# Altium integrated library TI Data Converters Digital to Analog Converter.IntLib: 1533 symbols (part 95 of 99)
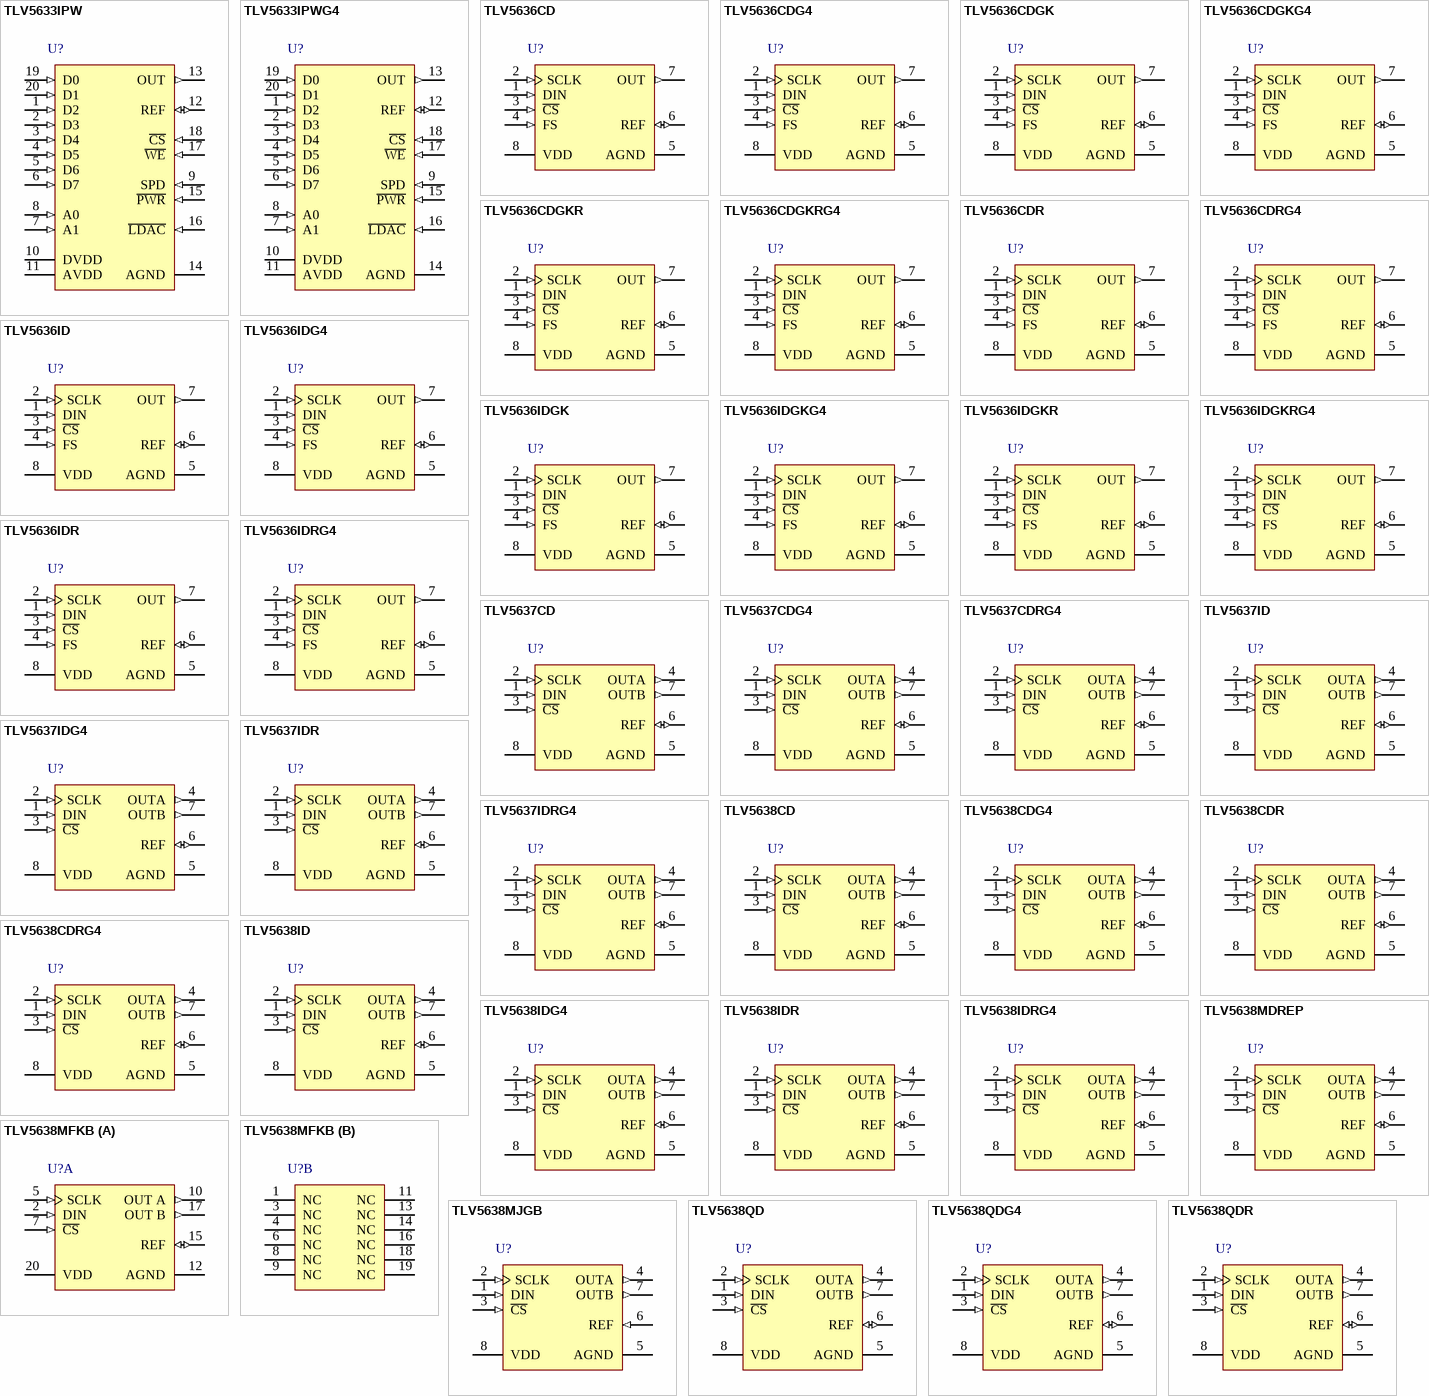
[diagram p167: symbols TLV5633IPW to TLV5638QDR]

## TLV5633IPWG4
designator U?
12-Bit DAC Parallel Voltage Out Programmable Internal Reference Settling Time, Power Consumption, 8-Bit uController Compatible Interface, -40 to 85 degC, 20-pin SOP (PW20), Green (RoHS & no Sb/Br); Manufacturer: Texas Instruments; PartNumber: TLV5633IPWG4; DAC Channels: 1; DNL(Max)(+/-LSB): 0.5; INL(Max)(+/-LSB): 3; Power Consumption(Typ)(mW): 2.7; Resolution(Bits): 12; SFDR(dB): 74; SNR(dB): 78; SubFamily: Precision DAC (=<10MSPS); DatasheetVersion: SLAS190C; PackageVersion: 4040064-5/G, 02/2011; PackageReference: PW20; PackageDescription: 20-Pin Plastic Small Outline, Body 6.5 x 4.4 mm, Pitch 0.65 mm; Supplier 1: Digi-Key; Supplier Part Number 1: TLV5633IPWG4-ND; Supplier 2: Mouser; Supplier Part Number 2: 595-TLV5633IPWG4; Eco-Plan: Green (RoHS & no Sb/Br); Interface: Parallel; Settling Time(us): 1; Mounting Technology: Surface Mount; Code_JEDEC: MO-153; ComponentLink1Description: Manufacturer URL; ComponentLink1URL: http://www.ti.com/; ComponentLink2Description: Datasheet; ComponentLink2URL: http://www.ti.com/general/docs/lit/getliterature.tsp?genericPartNumber=TLV5633&fileType=pdf; ComponentLink3Description: Package Specification; ComponentLink3URL: http://www.ti.com.cn/cn/lit/ml/mpds362/mpds362.pdf
footprint TI-PW20_N (SOP, 20-Leads, Body 6.5x4.4mm, Pitch 0.65mm, IPC Medium Density)
footprint TI-PW20_L (SOP, 20-Leads, Body 6.5x4.4mm, Pitch 0.65mm, IPC High Density)
footprint TI-PW20_M (SOP, 20-Leads, Body 6.5x4.4mm, Pitch 0.65mm, IPC Low Density)
pins: 1 D2 (in) "Data input", 2 D3 (in) "Data input", 3 D4 (in) "Data input", 4 D5 (in) "Data input", 5 D6 (in) "Data input", 6 D7 (in) "Data input", 7 A1 (in) "Address input", 8 A0 (in) "Address input", 9 SPD (in) "Speed select. Digital input", 10 DVDD (power) "Positive power supply (digital part)", 11 AVDD (power) "Positive power supply (analog part)", 12 REF (io) "Analog reference voltage input/output", 13 OUT (out) "DAC analog voltage output", 14 AGND (power) "Ground", 15 ~{PWR} (in) "Power down. Digital input active low", 16 ~{LDAC} (in) "Load DAC. Digital input active low, used to load DAC output", 17 ~{WE} (in) "Write enable. Digital input active low, used to latch data", 18 ~{CS} (in) "Chip select. Digital input active low, used to enable/disable inputs", 19 D0 (in) "Data input", 20 D1 (in) "Data input"

## TLV5636CD
designator U?
12-Bit, 1 us DAC Serial Input, Programmable Internal Reference, Settling Time, 0 to 70 degC, 8-pin SOIC (D8), Green (RoHS & no Sb/Br); Manufacturer: Texas Instruments; PartNumber: TLV5636CD; DAC Channels: 1; INL(Max)(+/-LSB): 4; Interface: Serial SPI; Power Consumption(Typ)(mW): 4.5; Resolution(Bits): 12; SFDR(dB): 69; SNR(dB): 75; SubFamily: Precision DAC (=<10MSPS); DatasheetVersion: SLAS223C; PackageVersion: 4040047-3/M, 06/2011; PackageReference: D8; PackageDescription: 8-Pin Plastic Small Outline, Body 4.9 x 3.9 mm, Pitch 1.27 mm; Supplier 1: Digi-Key; Supplier Part Number 1: 296-2315-5-ND; Supplier 2: Newark; Supplier Part Number 2: 19C9019; Supplier 3: Mouser; Supplier Part Number 3: 595-TLV5636CD; DNL(Max)(+/-LSB): 1; Eco-Plan: Green (RoHS & no Sb/Br); Settling Time(us): 1; Mounting Technology: Surface Mount; Code_JEDEC: MS-012; ComponentLink1Description: Manufacturer URL; ComponentLink1URL: http://www.ti.com/; ComponentLink2Description: Datasheet; ComponentLink2URL: http://www.ti.com/general/docs/lit/getliterature.tsp?genericPartNumber=TLV5636&fileType=pdf; ComponentLink3Description: Package Specification; ComponentLink3URL: http://www.ti.com/litv/pdf/msoi002j
footprint TI-D8_N (SOIC, 8-Leads, Body 4.9x3.9mm, Pitch 1.27mm, IPC Medium Density)
footprint TI-D8_L (SOIC, 8-Leads, Body 4.9x3.9mm, Pitch 1.27mm, IPC High Density)
footprint TI-D8_M (SOIC, 8-Leads, Body 4.9x3.9mm, Pitch 1.27mm, IPC Low Density)
pins: 1 DIN (in) "Digital serial data input", 2 SCLK (in) "Digital serial clock input", 3 ~{CS} (in) "Chip select. Digital input active low, used to enable/disable inputs", 4 FS (in) "Frame sync input", 5 AGND (power) "Ground", 6 REF (io) "Analog reference voltage input/output", 7 OUT (out) "DAC A analog voltage output", 8 VDD (power) "Positive power supply"

## TLV5636CDG4
designator U?
12-Bit, 1 us DAC Serial Input, Programmable Internal Reference, Settling Time, 0 to 70 degC, 8-pin SOIC (D8), Green (RoHS & no Sb/Br); Manufacturer: Texas Instruments; PartNumber: TLV5636CDG4; DAC Channels: 1; INL(Max)(+/-LSB): 4; Interface: Serial SPI; Power Consumption(Typ)(mW): 4.5; Resolution(Bits): 12; SFDR(dB): 69; SNR(dB): 75; SubFamily: Precision DAC (=<10MSPS); DatasheetVersion: SLAS223C; PackageVersion: 4040047-3/M, 06/2011; PackageReference: D8; PackageDescription: 8-Pin Plastic Small Outline, Body 4.9 x 3.9 mm, Pitch 1.27 mm; Supplier 1: Digi-Key; Supplier Part Number 1: TLV5636CDG4-ND; Supplier 2: Mouser; Supplier Part Number 2: 595-TLV5636CDG4; DNL(Max)(+/-LSB): 1; Eco-Plan: Green (RoHS & no Sb/Br); Settling Time(us): 1; Mounting Technology: Surface Mount; Code_JEDEC: MS-012; ComponentLink1Description: Manufacturer URL; ComponentLink1URL: http://www.ti.com/; ComponentLink2Description: Datasheet; ComponentLink2URL: http://www.ti.com/general/docs/lit/getliterature.tsp?genericPartNumber=TLV5636&fileType=pdf; ComponentLink3Description: Package Specification; ComponentLink3URL: http://www.ti.com/litv/pdf/msoi002j
footprint TI-D8_N (SOIC, 8-Leads, Body 4.9x3.9mm, Pitch 1.27mm, IPC Medium Density)
footprint TI-D8_L (SOIC, 8-Leads, Body 4.9x3.9mm, Pitch 1.27mm, IPC High Density)
footprint TI-D8_M (SOIC, 8-Leads, Body 4.9x3.9mm, Pitch 1.27mm, IPC Low Density)
pins: 1 DIN (in) "Digital serial data input", 2 SCLK (in) "Digital serial clock input", 3 ~{CS} (in) "Chip select. Digital input active low, used to enable/disable inputs", 4 FS (in) "Frame sync input", 5 AGND (power) "Ground", 6 REF (io) "Analog reference voltage input/output", 7 OUT (out) "DAC A analog voltage output", 8 VDD (power) "Positive power supply"

## TLV5636CDGK
designator U?
12-Bit, 1 us DAC Serial Input, Programmable Internal Reference, Settling Time, 0 to 70 degC, 8-pin SOP (DGK8), Green (RoHS & no Sb/Br); Manufacturer: Texas Instruments; PartNumber: TLV5636CDGK; DAC Channels: 1; INL(Max)(+/-LSB): 4; Interface: Serial SPI; Power Consumption(Typ)(mW): 4.5; Resolution(Bits): 12; SFDR(dB): 69; SNR(dB): 75; SubFamily: Precision DAC (=<10MSPS); DatasheetVersion: SLAS223C; PackageVersion: 4073329/E, 05/2006; PackageReference: DGK8; PackageDescription: 8-Pin Thin Small Outline, Body 3 x 3 mm, Pitch 0.65 mm; Supplier 1: Digi-Key; Supplier Part Number 1: 296-34496-5-ND; Supplier 2: Mouser; Supplier Part Number 2: 595-TLV5636CDGK; DNL(Max)(+/-LSB): 1; Eco-Plan: Green (RoHS & no Sb/Br); Settling Time(us): 1; Mounting Technology: Surface Mount; Code_JEDEC: MO-187; ComponentLink1Description: Manufacturer URL; ComponentLink1URL: http://www.ti.com/; ComponentLink2Description: Datasheet; ComponentLink2URL: http://www.ti.com/general/docs/lit/getliterature.tsp?genericPartNumber=TLV5636&fileType=pdf; ComponentLink3Description: Package Specification; ComponentLink3URL: http://www.ti.com/litv/pdf/mpds028d
footprint TI-DGK8_N (SOP, 8-Leads, Body 3x3mm, Pitch 0.65mm, IPC Medium Density)
footprint TI-DGK8_L (SOP, 8-Leads, Body 3x3mm, Pitch 0.65mm, IPC High Density)
footprint TI-DGK8_M (SOP, 8-Leads, Body 3x3mm, Pitch 0.65mm, IPC Low Density)
pins: 1 DIN (in) "Digital serial data input", 2 SCLK (in) "Digital serial clock input", 3 ~{CS} (in) "Chip select. Digital input active low, used to enable/disable inputs", 4 FS (in) "Frame sync input", 5 AGND (power) "Ground", 6 REF (io) "Analog reference voltage input/output", 7 OUT (out) "DAC A analog voltage output", 8 VDD (power) "Positive power supply"

## TLV5636CDGKG4
designator U?
12-Bit, 1 us DAC Serial Input, Programmable Internal Reference, Settling Time, 0 to 70 degC, 8-pin SOP (DGK8), Green (RoHS & no Sb/Br); Manufacturer: Texas Instruments; PartNumber: TLV5636CDGKG4; DAC Channels: 1; INL(Max)(+/-LSB): 4; Interface: Serial SPI; Power Consumption(Typ)(mW): 4.5; Resolution(Bits): 12; SFDR(dB): 69; SNR(dB): 75; SubFamily: Precision DAC (=<10MSPS); DatasheetVersion: SLAS223C; PackageVersion: 4073329/E, 05/2006; PackageReference: DGK8; PackageDescription: 8-Pin Thin Small Outline, Body 3 x 3 mm, Pitch 0.65 mm; Supplier 1: Digi-Key; Supplier Part Number 1: TLV5636CDGKG4-ND; Supplier 2: Mouser; Supplier Part Number 2: 595-TLV5636CDGKG4; DNL(Max)(+/-LSB): 1; Eco-Plan: Green (RoHS & no Sb/Br); Settling Time(us): 1; Mounting Technology: Surface Mount; Code_JEDEC: MO-187; ComponentLink1Description: Manufacturer URL; ComponentLink1URL: http://www.ti.com/; ComponentLink2Description: Datasheet; ComponentLink2URL: http://www.ti.com/general/docs/lit/getliterature.tsp?genericPartNumber=TLV5636&fileType=pdf; ComponentLink3Description: Package Specification; ComponentLink3URL: http://www.ti.com/litv/pdf/mpds028d
footprint TI-DGK8_N (SOP, 8-Leads, Body 3x3mm, Pitch 0.65mm, IPC Medium Density)
footprint TI-DGK8_L (SOP, 8-Leads, Body 3x3mm, Pitch 0.65mm, IPC High Density)
footprint TI-DGK8_M (SOP, 8-Leads, Body 3x3mm, Pitch 0.65mm, IPC Low Density)
pins: 1 DIN (in) "Digital serial data input", 2 SCLK (in) "Digital serial clock input", 3 ~{CS} (in) "Chip select. Digital input active low, used to enable/disable inputs", 4 FS (in) "Frame sync input", 5 AGND (power) "Ground", 6 REF (io) "Analog reference voltage input/output", 7 OUT (out) "DAC A analog voltage output", 8 VDD (power) "Positive power supply"

## TLV5636CDGKR
designator U?
12-Bit, 1 us DAC Serial Input, Programmable Internal Reference, Settling Time, 0 to 70 degC, 8-pin SOP (DGK8), Green (RoHS & no Sb/Br); Manufacturer: Texas Instruments; PartNumber: TLV5636CDGKR; DAC Channels: 1; INL(Max)(+/-LSB): 4; Interface: Serial SPI; Power Consumption(Typ)(mW): 4.5; Resolution(Bits): 12; SFDR(dB): 69; SNR(dB): 75; SubFamily: Precision DAC (=<10MSPS); DatasheetVersion: SLAS223C; PackageVersion: 4073329/E, 05/2006; PackageReference: DGK8; PackageDescription: 8-Pin Thin Small Outline, Body 3 x 3 mm, Pitch 0.65 mm; Supplier 1: Digi-Key; Supplier Part Number 1: TLV5636CDGKR-ND; Supplier 2: Mouser; Supplier Part Number 2: 595-TLV5636CDGKR; DNL(Max)(+/-LSB): 1; Eco-Plan: Green (RoHS & no Sb/Br); Settling Time(us): 1; Mounting Technology: Surface Mount; Code_JEDEC: MO-187; ComponentLink1Description: Manufacturer URL; ComponentLink1URL: http://www.ti.com/; ComponentLink2Description: Datasheet; ComponentLink2URL: http://www.ti.com/general/docs/lit/getliterature.tsp?genericPartNumber=TLV5636&fileType=pdf; ComponentLink3Description: Package Specification; ComponentLink3URL: http://www.ti.com/litv/pdf/mpds028d
footprint TI-DGK8_N (SOP, 8-Leads, Body 3x3mm, Pitch 0.65mm, IPC Medium Density)
footprint TI-DGK8_L (SOP, 8-Leads, Body 3x3mm, Pitch 0.65mm, IPC High Density)
footprint TI-DGK8_M (SOP, 8-Leads, Body 3x3mm, Pitch 0.65mm, IPC Low Density)
pins: 1 DIN (in) "Digital serial data input", 2 SCLK (in) "Digital serial clock input", 3 ~{CS} (in) "Chip select. Digital input active low, used to enable/disable inputs", 4 FS (in) "Frame sync input", 5 AGND (power) "Ground", 6 REF (io) "Analog reference voltage input/output", 7 OUT (out) "DAC A analog voltage output", 8 VDD (power) "Positive power supply"

## TLV5636CDGKRG4
designator U?
12-Bit, 1 us DAC Serial Input, Programmable Internal Reference, Settling Time, 0 to 70 degC, 8-pin SOP (DGK8), Green (RoHS & no Sb/Br); Manufacturer: Texas Instruments; PartNumber: TLV5636CDGKRG4; DAC Channels: 1; INL(Max)(+/-LSB): 4; Interface: Serial SPI; Power Consumption(Typ)(mW): 4.5; Resolution(Bits): 12; SFDR(dB): 69; SNR(dB): 75; SubFamily: Precision DAC (=<10MSPS); DatasheetVersion: SLAS223C; PackageVersion: 4073329/E, 05/2006; PackageReference: DGK8; PackageDescription: 8-Pin Thin Small Outline, Body 3 x 3 mm, Pitch 0.65 mm; Supplier 1: Digi-Key; Supplier Part Number 1: TLV5636CDGKRG4-ND; Supplier 2: Mouser; Supplier Part Number 2: 595-TLV5636CDGKRG4; DNL(Max)(+/-LSB): 1; Eco-Plan: Green (RoHS & no Sb/Br); Settling Time(us): 1; Mounting Technology: Surface Mount; Code_JEDEC: MO-187; ComponentLink1Description: Manufacturer URL; ComponentLink1URL: http://www.ti.com/; ComponentLink2Description: Datasheet; ComponentLink2URL: http://www.ti.com/general/docs/lit/getliterature.tsp?genericPartNumber=TLV5636&fileType=pdf; ComponentLink3Description: Package Specification; ComponentLink3URL: http://www.ti.com/litv/pdf/mpds028d
footprint TI-DGK8_N (SOP, 8-Leads, Body 3x3mm, Pitch 0.65mm, IPC Medium Density)
footprint TI-DGK8_L (SOP, 8-Leads, Body 3x3mm, Pitch 0.65mm, IPC High Density)
footprint TI-DGK8_M (SOP, 8-Leads, Body 3x3mm, Pitch 0.65mm, IPC Low Density)
pins: 1 DIN (in) "Digital serial data input", 2 SCLK (in) "Digital serial clock input", 3 ~{CS} (in) "Chip select. Digital input active low, used to enable/disable inputs", 4 FS (in) "Frame sync input", 5 AGND (power) "Ground", 6 REF (io) "Analog reference voltage input/output", 7 OUT (out) "DAC A analog voltage output", 8 VDD (power) "Positive power supply"

## TLV5636CDR
designator U?
12-Bit, 1 us DAC Serial Input, Programmable Internal Reference, Settling Time, 0 to 70 degC, 8-pin SOIC (D8), Green (RoHS & no Sb/Br); Manufacturer: Texas Instruments; PartNumber: TLV5636CDR; DAC Channels: 1; INL(Max)(+/-LSB): 4; Interface: Serial SPI; Power Consumption(Typ)(mW): 4.5; Resolution(Bits): 12; SFDR(dB): 69; SNR(dB): 75; SubFamily: Precision DAC (=<10MSPS); DatasheetVersion: SLAS223C; PackageVersion: 4040047-3/M, 06/2011; PackageReference: D8; PackageDescription: 8-Pin Plastic Small Outline, Body 4.9 x 3.9 mm, Pitch 1.27 mm; Supplier 1: Digi-Key; Supplier Part Number 1: TLV5636CDR-ND; Supplier 2: Mouser; Supplier Part Number 2: 595-TLV5636CDR; DNL(Max)(+/-LSB): 1; Eco-Plan: Green (RoHS & no Sb/Br); Settling Time(us): 1; Mounting Technology: Surface Mount; Code_JEDEC: MS-012; ComponentLink1Description: Manufacturer URL; ComponentLink1URL: http://www.ti.com/; ComponentLink2Description: Datasheet; ComponentLink2URL: http://www.ti.com/general/docs/lit/getliterature.tsp?genericPartNumber=TLV5636&fileType=pdf; ComponentLink3Description: Package Specification; ComponentLink3URL: http://www.ti.com/litv/pdf/msoi002j
footprint TI-D8_N (SOIC, 8-Leads, Body 4.9x3.9mm, Pitch 1.27mm, IPC Medium Density)
footprint TI-D8_L (SOIC, 8-Leads, Body 4.9x3.9mm, Pitch 1.27mm, IPC High Density)
footprint TI-D8_M (SOIC, 8-Leads, Body 4.9x3.9mm, Pitch 1.27mm, IPC Low Density)
pins: 1 DIN (in) "Digital serial data input", 2 SCLK (in) "Digital serial clock input", 3 ~{CS} (in) "Chip select. Digital input active low, used to enable/disable inputs", 4 FS (in) "Frame sync input", 5 AGND (power) "Ground", 6 REF (io) "Analog reference voltage input/output", 7 OUT (out) "DAC A analog voltage output", 8 VDD (power) "Positive power supply"

## TLV5636CDRG4
designator U?
12-Bit, 1 us DAC Serial Input, Programmable Internal Reference, Settling Time, 0 to 70 degC, 8-pin SOIC (D8), Green (RoHS & no Sb/Br); Manufacturer: Texas Instruments; PartNumber: TLV5636CDRG4; DAC Channels: 1; INL(Max)(+/-LSB): 4; Interface: Serial SPI; Power Consumption(Typ)(mW): 4.5; Resolution(Bits): 12; SFDR(dB): 69; SNR(dB): 75; SubFamily: Precision DAC (=<10MSPS); DatasheetVersion: SLAS223C; PackageVersion: 4040047-3/M, 06/2011; PackageReference: D8; PackageDescription: 8-Pin Plastic Small Outline, Body 4.9 x 3.9 mm, Pitch 1.27 mm; Supplier 1: Digi-Key; Supplier Part Number 1: TLV5636CDRG4-ND; Supplier 2: Mouser; Supplier Part Number 2: 595-TLV5636CDRG4; DNL(Max)(+/-LSB): 1; Eco-Plan: Green (RoHS & no Sb/Br); Settling Time(us): 1; Mounting Technology: Surface Mount; Code_JEDEC: MS-012; ComponentLink1Description: Manufacturer URL; ComponentLink1URL: http://www.ti.com/; ComponentLink2Description: Datasheet; ComponentLink2URL: http://www.ti.com/general/docs/lit/getliterature.tsp?genericPartNumber=TLV5636&fileType=pdf; ComponentLink3Description: Package Specification; ComponentLink3URL: http://www.ti.com/litv/pdf/msoi002j
footprint TI-D8_N (SOIC, 8-Leads, Body 4.9x3.9mm, Pitch 1.27mm, IPC Medium Density)
footprint TI-D8_L (SOIC, 8-Leads, Body 4.9x3.9mm, Pitch 1.27mm, IPC High Density)
footprint TI-D8_M (SOIC, 8-Leads, Body 4.9x3.9mm, Pitch 1.27mm, IPC Low Density)
pins: 1 DIN (in) "Digital serial data input", 2 SCLK (in) "Digital serial clock input", 3 ~{CS} (in) "Chip select. Digital input active low, used to enable/disable inputs", 4 FS (in) "Frame sync input", 5 AGND (power) "Ground", 6 REF (io) "Analog reference voltage input/output", 7 OUT (out) "DAC A analog voltage output", 8 VDD (power) "Positive power supply"

## TLV5636ID
designator U?
12-Bit, 1 us DAC Serial Input, Programmable Internal Reference, Settling Time, -40 to 85 degC, 8-pin SOIC (D8), Green (RoHS & no Sb/Br); Manufacturer: Texas Instruments; PartNumber: TLV5636ID; DAC Channels: 1; INL(Max)(+/-LSB): 4; Interface: Serial SPI; Power Consumption(Typ)(mW): 4.5; Resolution(Bits): 12; SFDR(dB): 69; SNR(dB): 75; SubFamily: Precision DAC (=<10MSPS); DatasheetVersion: SLAS223C; PackageVersion: 4040047-3/M, 06/2011; PackageReference: D8; PackageDescription: 8-Pin Plastic Small Outline, Body 4.9 x 3.9 mm, Pitch 1.27 mm; Supplier 1: Digi-Key; Supplier Part Number 1: 296-3073-5-ND; Supplier 2: Newark; Supplier Part Number 2: 76C8987; Supplier 3: Mouser; Supplier Part Number 3: 595-TLV5636ID; DNL(Max)(+/-LSB): 1; Eco-Plan: Green (RoHS & no Sb/Br); Settling Time(us): 1; Mounting Technology: Surface Mount; Code_JEDEC: MS-012; ComponentLink1Description: Manufacturer URL; ComponentLink1URL: http://www.ti.com/; ComponentLink2Description: Datasheet; ComponentLink2URL: http://www.ti.com/general/docs/lit/getliterature.tsp?genericPartNumber=TLV5636&fileType=pdf; ComponentLink3Description: Package Specification; ComponentLink3URL: http://www.ti.com/litv/pdf/msoi002j
footprint TI-D8_N (SOIC, 8-Leads, Body 4.9x3.9mm, Pitch 1.27mm, IPC Medium Density)
footprint TI-D8_L (SOIC, 8-Leads, Body 4.9x3.9mm, Pitch 1.27mm, IPC High Density)
footprint TI-D8_M (SOIC, 8-Leads, Body 4.9x3.9mm, Pitch 1.27mm, IPC Low Density)
pins: 1 DIN (in) "Digital serial data input", 2 SCLK (in) "Digital serial clock input", 3 ~{CS} (in) "Chip select. Digital input active low, used to enable/disable inputs", 4 FS (in) "Frame sync input", 5 AGND (power) "Ground", 6 REF (io) "Analog reference voltage input/output", 7 OUT (out) "DAC A analog voltage output", 8 VDD (power) "Positive power supply"

## TLV5636IDG4
designator U?
12-Bit, 1 us DAC Serial Input, Programmable Internal Reference, Settling Time, -40 to 85 degC, 8-pin SOIC (D8), Green (RoHS & no Sb/Br); Manufacturer: Texas Instruments; PartNumber: TLV5636IDG4; DAC Channels: 1; INL(Max)(+/-LSB): 4; Interface: Serial SPI; Power Consumption(Typ)(mW): 4.5; Resolution(Bits): 12; SFDR(dB): 69; SNR(dB): 75; SubFamily: Precision DAC (=<10MSPS); DatasheetVersion: SLAS223C; PackageVersion: 4040047-3/M, 06/2011; PackageReference: D8; PackageDescription: 8-Pin Plastic Small Outline, Body 4.9 x 3.9 mm, Pitch 1.27 mm; Supplier 1: Digi-Key; Supplier Part Number 1: TLV5636IDG4-ND; Supplier 2: Mouser; Supplier Part Number 2: 595-TLV5636IDG4; DNL(Max)(+/-LSB): 1; Eco-Plan: Green (RoHS & no Sb/Br); Settling Time(us): 1; Mounting Technology: Surface Mount; Code_JEDEC: MS-012; ComponentLink1Description: Manufacturer URL; ComponentLink1URL: http://www.ti.com/; ComponentLink2Description: Datasheet; ComponentLink2URL: http://www.ti.com/general/docs/lit/getliterature.tsp?genericPartNumber=TLV5636&fileType=pdf; ComponentLink3Description: Package Specification; ComponentLink3URL: http://www.ti.com/litv/pdf/msoi002j
footprint TI-D8_N (SOIC, 8-Leads, Body 4.9x3.9mm, Pitch 1.27mm, IPC Medium Density)
footprint TI-D8_L (SOIC, 8-Leads, Body 4.9x3.9mm, Pitch 1.27mm, IPC High Density)
footprint TI-D8_M (SOIC, 8-Leads, Body 4.9x3.9mm, Pitch 1.27mm, IPC Low Density)
pins: 1 DIN (in) "Digital serial data input", 2 SCLK (in) "Digital serial clock input", 3 ~{CS} (in) "Chip select. Digital input active low, used to enable/disable inputs", 4 FS (in) "Frame sync input", 5 AGND (power) "Ground", 6 REF (io) "Analog reference voltage input/output", 7 OUT (out) "DAC A analog voltage output", 8 VDD (power) "Positive power supply"

## TLV5636IDGK
designator U?
12-Bit, 1 us DAC Serial Input, Programmable Internal Reference, Settling Time, -40 to 85 degC, 8-pin SOP (DGK8), Green (RoHS & no Sb/Br); Manufacturer: Texas Instruments; PartNumber: TLV5636IDGK; DAC Channels: 1; INL(Max)(+/-LSB): 4; Interface: Serial SPI; Power Consumption(Typ)(mW): 4.5; Resolution(Bits): 12; SFDR(dB): 69; SNR(dB): 75; SubFamily: Precision DAC (=<10MSPS); DatasheetVersion: SLAS223C; PackageVersion: 4073329/E, 05/2006; PackageReference: DGK8; PackageDescription: 8-Pin Thin Small Outline, Body 3 x 3 mm, Pitch 0.65 mm; Supplier 1: Digi-Key; Supplier Part Number 1: 296-3074-5-ND; Supplier 2: Newark; Supplier Part Number 2: 76C8988; Supplier 3: Mouser; Supplier Part Number 3: 595-TLV5636IDGK; DNL(Max)(+/-LSB): 1; Eco-Plan: Green (RoHS & no Sb/Br); Settling Time(us): 1; Mounting Technology: Surface Mount; Code_JEDEC: MO-187; ComponentLink1Description: Manufacturer URL; ComponentLink1URL: http://www.ti.com/; ComponentLink2Description: Datasheet; ComponentLink2URL: http://www.ti.com/general/docs/lit/getliterature.tsp?genericPartNumber=TLV5636&fileType=pdf; ComponentLink3Description: Package Specification; ComponentLink3URL: http://www.ti.com/litv/pdf/mpds028d
footprint TI-DGK8_N (SOP, 8-Leads, Body 3x3mm, Pitch 0.65mm, IPC Medium Density)
footprint TI-DGK8_L (SOP, 8-Leads, Body 3x3mm, Pitch 0.65mm, IPC High Density)
footprint TI-DGK8_M (SOP, 8-Leads, Body 3x3mm, Pitch 0.65mm, IPC Low Density)
pins: 1 DIN (in) "Digital serial data input", 2 SCLK (in) "Digital serial clock input", 3 ~{CS} (in) "Chip select. Digital input active low, used to enable/disable inputs", 4 FS (in) "Frame sync input", 5 AGND (power) "Ground", 6 REF (io) "Analog reference voltage input/output", 7 OUT (out) "DAC A analog voltage output", 8 VDD (power) "Positive power supply"

## TLV5636IDGKG4
designator U?
12-Bit, 1 us DAC Serial Input, Programmable Internal Reference, Settling Time, -40 to 85 degC, 8-pin SOP (DGK8), Green (RoHS & no Sb/Br); Manufacturer: Texas Instruments; PartNumber: TLV5636IDGKG4; DAC Channels: 1; INL(Max)(+/-LSB): 4; Interface: Serial SPI; Power Consumption(Typ)(mW): 4.5; Resolution(Bits): 12; SFDR(dB): 69; SNR(dB): 75; SubFamily: Precision DAC (=<10MSPS); DatasheetVersion: SLAS223C; PackageVersion: 4073329/E, 05/2006; PackageReference: DGK8; PackageDescription: 8-Pin Thin Small Outline, Body 3 x 3 mm, Pitch 0.65 mm; Supplier 1: Digi-Key; Supplier Part Number 1: TLV5636IDGKG4-ND; Supplier 2: Newark; Supplier Part Number 2: 71J8042; Supplier 3: Mouser; Supplier Part Number 3: 595-TLV5636IDGKG4; DNL(Max)(+/-LSB): 1; Eco-Plan: Green (RoHS & no Sb/Br); Settling Time(us): 1; Mounting Technology: Surface Mount; Code_JEDEC: MO-187; ComponentLink1Description: Manufacturer URL; ComponentLink1URL: http://www.ti.com/; ComponentLink2Description: Datasheet; ComponentLink2URL: http://www.ti.com/general/docs/lit/getliterature.tsp?genericPartNumber=TLV5636&fileType=pdf; ComponentLink3Description: Package Specification; ComponentLink3URL: http://www.ti.com/litv/pdf/mpds028d
footprint TI-DGK8_N (SOP, 8-Leads, Body 3x3mm, Pitch 0.65mm, IPC Medium Density)
footprint TI-DGK8_L (SOP, 8-Leads, Body 3x3mm, Pitch 0.65mm, IPC High Density)
footprint TI-DGK8_M (SOP, 8-Leads, Body 3x3mm, Pitch 0.65mm, IPC Low Density)
pins: 1 DIN (in) "Digital serial data input", 2 SCLK (in) "Digital serial clock input", 3 ~{CS} (in) "Chip select. Digital input active low, used to enable/disable inputs", 4 FS (in) "Frame sync input", 5 AGND (power) "Ground", 6 REF (io) "Analog reference voltage input/output", 7 OUT (out) "DAC A analog voltage output", 8 VDD (power) "Positive power supply"

## TLV5636IDGKR
designator U?
12-Bit, 1 us DAC Serial Input, Programmable Internal Reference, Settling Time, -40 to 85 degC, 8-pin SOP (DGK8), Green (RoHS & no Sb/Br); Manufacturer: Texas Instruments; PartNumber: TLV5636IDGKR; DAC Channels: 1; INL(Max)(+/-LSB): 4; Interface: Serial SPI; Power Consumption(Typ)(mW): 4.5; Resolution(Bits): 12; SFDR(dB): 69; SNR(dB): 75; SubFamily: Precision DAC (=<10MSPS); DatasheetVersion: SLAS223C; PackageVersion: 4073329/E, 05/2006; PackageReference: DGK8; PackageDescription: 8-Pin Thin Small Outline, Body 3 x 3 mm, Pitch 0.65 mm; Supplier 1: Digi-Key; Supplier Part Number 1: TLV5636IDGKR-ND; Supplier 2: Newark; Supplier Part Number 2: 76C8989; Supplier 3: Mouser; Supplier Part Number 3: 595-TLV5636IDGKR; DNL(Max)(+/-LSB): 1; Eco-Plan: Green (RoHS & no Sb/Br); Settling Time(us): 1; Mounting Technology: Surface Mount; Code_JEDEC: MO-187; ComponentLink1Description: Manufacturer URL; ComponentLink1URL: http://www.ti.com/; ComponentLink2Description: Datasheet; ComponentLink2URL: http://www.ti.com/general/docs/lit/getliterature.tsp?genericPartNumber=TLV5636&fileType=pdf; ComponentLink3Description: Package Specification; ComponentLink3URL: http://www.ti.com/litv/pdf/mpds028d
footprint TI-DGK8_N (SOP, 8-Leads, Body 3x3mm, Pitch 0.65mm, IPC Medium Density)
footprint TI-DGK8_L (SOP, 8-Leads, Body 3x3mm, Pitch 0.65mm, IPC High Density)
footprint TI-DGK8_M (SOP, 8-Leads, Body 3x3mm, Pitch 0.65mm, IPC Low Density)
pins: 1 DIN (in) "Digital serial data input", 2 SCLK (in) "Digital serial clock input", 3 ~{CS} (in) "Chip select. Digital input active low, used to enable/disable inputs", 4 FS (in) "Frame sync input", 5 AGND (power) "Ground", 6 REF (io) "Analog reference voltage input/output", 7 OUT (out) "DAC A analog voltage output", 8 VDD (power) "Positive power supply"

## TLV5636IDGKRG4
designator U?
12-Bit, 1 us DAC Serial Input, Programmable Internal Reference, Settling Time, -40 to 85 degC, 8-pin SOP (DGK8), Green (RoHS & no Sb/Br); Manufacturer: Texas Instruments; PartNumber: TLV5636IDGKRG4; DAC Channels: 1; INL(Max)(+/-LSB): 4; Interface: Serial SPI; Power Consumption(Typ)(mW): 4.5; Resolution(Bits): 12; SFDR(dB): 69; SNR(dB): 75; SubFamily: Precision DAC (=<10MSPS); DatasheetVersion: SLAS223C; PackageVersion: 4073329/E, 05/2006; PackageReference: DGK8; PackageDescription: 8-Pin Thin Small Outline, Body 3 x 3 mm, Pitch 0.65 mm; Supplier 1: Digi-Key; Supplier Part Number 1: TLV5636IDGKRG4-ND; Supplier 2: Newark; Supplier Part Number 2: 71J8043; Supplier 3: Mouser; Supplier Part Number 3: 595-TLV5636IDGKRG4; DNL(Max)(+/-LSB): 1; Eco-Plan: Green (RoHS & no Sb/Br); Settling Time(us): 1; Mounting Technology: Surface Mount; Code_JEDEC: MO-187; ComponentLink1Description: Manufacturer URL; ComponentLink1URL: http://www.ti.com/; ComponentLink2Description: Datasheet; ComponentLink2URL: http://www.ti.com/general/docs/lit/getliterature.tsp?genericPartNumber=TLV5636&fileType=pdf; ComponentLink3Description: Package Specification; ComponentLink3URL: http://www.ti.com/litv/pdf/mpds028d
footprint TI-DGK8_N (SOP, 8-Leads, Body 3x3mm, Pitch 0.65mm, IPC Medium Density)
footprint TI-DGK8_L (SOP, 8-Leads, Body 3x3mm, Pitch 0.65mm, IPC High Density)
footprint TI-DGK8_M (SOP, 8-Leads, Body 3x3mm, Pitch 0.65mm, IPC Low Density)
pins: 1 DIN (in) "Digital serial data input", 2 SCLK (in) "Digital serial clock input", 3 ~{CS} (in) "Chip select. Digital input active low, used to enable/disable inputs", 4 FS (in) "Frame sync input", 5 AGND (power) "Ground", 6 REF (io) "Analog reference voltage input/output", 7 OUT (out) "DAC A analog voltage output", 8 VDD (power) "Positive power supply"

## TLV5636IDR
designator U?
12-Bit, 1 us DAC Serial Input, Programmable Internal Reference, Settling Time, -40 to 85 degC, 8-pin SOIC (D8), Green (RoHS & no Sb/Br); Manufacturer: Texas Instruments; PartNumber: TLV5636IDR; DAC Channels: 1; INL(Max)(+/-LSB): 4; Interface: Serial SPI; Power Consumption(Typ)(mW): 4.5; Resolution(Bits): 12; SFDR(dB): 69; SNR(dB): 75; SubFamily: Precision DAC (=<10MSPS); DatasheetVersion: SLAS223C; PackageVersion: 4040047-3/M, 06/2011; PackageReference: D8; PackageDescription: 8-Pin Plastic Small Outline, Body 4.9 x 3.9 mm, Pitch 1.27 mm; Supplier 1: Digi-Key; Supplier Part Number 1: TLV5636IDR-ND; Supplier 2: Mouser; Supplier Part Number 2: 595-TLV5636IDR; DNL(Max)(+/-LSB): 1; Eco-Plan: Green (RoHS & no Sb/Br); Settling Time(us): 1; Mounting Technology: Surface Mount; Code_JEDEC: MS-012; ComponentLink1Description: Manufacturer URL; ComponentLink1URL: http://www.ti.com/; ComponentLink2Description: Datasheet; ComponentLink2URL: http://www.ti.com/general/docs/lit/getliterature.tsp?genericPartNumber=TLV5636&fileType=pdf; ComponentLink3Description: Package Specification; ComponentLink3URL: http://www.ti.com/litv/pdf/msoi002j
footprint TI-D8_N (SOIC, 8-Leads, Body 4.9x3.9mm, Pitch 1.27mm, IPC Medium Density)
footprint TI-D8_L (SOIC, 8-Leads, Body 4.9x3.9mm, Pitch 1.27mm, IPC High Density)
footprint TI-D8_M (SOIC, 8-Leads, Body 4.9x3.9mm, Pitch 1.27mm, IPC Low Density)
pins: 1 DIN (in) "Digital serial data input", 2 SCLK (in) "Digital serial clock input", 3 ~{CS} (in) "Chip select. Digital input active low, used to enable/disable inputs", 4 FS (in) "Frame sync input", 5 AGND (power) "Ground", 6 REF (io) "Analog reference voltage input/output", 7 OUT (out) "DAC A analog voltage output", 8 VDD (power) "Positive power supply"

## TLV5636IDRG4
designator U?
12-Bit, 1 us DAC Serial Input, Programmable Internal Reference, Settling Time, -40 to 85 degC, 8-pin SOIC (D8), Green (RoHS & no Sb/Br); Manufacturer: Texas Instruments; PartNumber: TLV5636IDRG4; DAC Channels: 1; INL(Max)(+/-LSB): 4; Interface: Serial SPI; Power Consumption(Typ)(mW): 4.5; Resolution(Bits): 12; SFDR(dB): 69; SNR(dB): 75; SubFamily: Precision DAC (=<10MSPS); DatasheetVersion: SLAS223C; PackageVersion: 4040047-3/M, 06/2011; PackageReference: D8; PackageDescription: 8-Pin Plastic Small Outline, Body 4.9 x 3.9 mm, Pitch 1.27 mm; Supplier 1: Digi-Key; Supplier Part Number 1: TLV5636IDRG4-ND; Supplier 2: Mouser; Supplier Part Number 2: 595-TLV5636IDRG4; DNL(Max)(+/-LSB): 1; Eco-Plan: Green (RoHS & no Sb/Br); Settling Time(us): 1; Mounting Technology: Surface Mount; Code_JEDEC: MS-012; ComponentLink1Description: Manufacturer URL; ComponentLink1URL: http://www.ti.com/; ComponentLink2Description: Datasheet; ComponentLink2URL: http://www.ti.com/general/docs/lit/getliterature.tsp?genericPartNumber=TLV5636&fileType=pdf; ComponentLink3Description: Package Specification; ComponentLink3URL: http://www.ti.com/litv/pdf/msoi002j
footprint TI-D8_N (SOIC, 8-Leads, Body 4.9x3.9mm, Pitch 1.27mm, IPC Medium Density)
footprint TI-D8_L (SOIC, 8-Leads, Body 4.9x3.9mm, Pitch 1.27mm, IPC High Density)
footprint TI-D8_M (SOIC, 8-Leads, Body 4.9x3.9mm, Pitch 1.27mm, IPC Low Density)
pins: 1 DIN (in) "Digital serial data input", 2 SCLK (in) "Digital serial clock input", 3 ~{CS} (in) "Chip select. Digital input active low, used to enable/disable inputs", 4 FS (in) "Frame sync input", 5 AGND (power) "Ground", 6 REF (io) "Analog reference voltage input/output", 7 OUT (out) "DAC A analog voltage output", 8 VDD (power) "Positive power supply"

## TLV5637CD
designator U?
10-Bit, 1 us DAC Serial Input, Dual DAC, Programmable Internal Reference, Settling Time, 0 to 70 degC, 8-pin SOIC (D8), Green (RoHS & no Sb/Br); Manufacturer: Texas Instruments; PartNumber: TLV5637CD; DAC Channels: 2; DNL(Max)(+/-LSB): 0.5; INL(Max)(+/-LSB): 1; Interface: Serial SPI; Power Consumption(Typ)(mW): 4.2; Resolution(Bits): 10; Settling Time(us): 0.8; SFDR(dB): 62; SNR(dB): 56; SubFamily: Precision DAC (=<10MSPS); DatasheetVersion: SLAS224C; PackageVersion: 4040047-3/M, 06/2011; PackageReference: D8; PackageDescription: 8-Pin Plastic Small Outline, Body 4.9 x 3.9 mm, Pitch 1.27 mm; Supplier 1: Digi-Key; Supplier Part Number 1: 296-2316-5-ND; Supplier 2: Farnell; Supplier Part Number 2: 8455813; Supplier 3: Newark; Supplier Part Number 3: 38K8495; Supplier 4: Mouser; Supplier Part Number 4: 595-TLV5637CD; Eco-Plan: Green (RoHS & no Sb/Br); Mounting Technology: Surface Mount; Code_JEDEC: MS-012; ComponentLink1Description: Manufacturer URL; ComponentLink1URL: http://www.ti.com/; ComponentLink2Description: Datasheet; ComponentLink2URL: http://www.ti.com/general/docs/lit/getliterature.tsp?genericPartNumber=TLV5637&fileType=pdf; ComponentLink3Description: Package Specification; ComponentLink3URL: http://www.ti.com/litv/pdf/msoi002j
footprint TI-D8_N (SOIC, 8-Leads, Body 4.9x3.9mm, Pitch 1.27mm, IPC Medium Density)
footprint TI-D8_L (SOIC, 8-Leads, Body 4.9x3.9mm, Pitch 1.27mm, IPC High Density)
footprint TI-D8_M (SOIC, 8-Leads, Body 4.9x3.9mm, Pitch 1.27mm, IPC Low Density)
pins: 1 DIN (in) "Digital serial data input", 2 SCLK (in) "Digital serial clock input", 3 ~{CS} (in) "Chip select. Digital input active low, used to enable/disable inputs", 4 OUTA (out) "DAC A analog voltage output", 5 AGND (power) "Ground", 6 REF (io) "Analog reference voltage input/output", 7 OUTB (out) "DAC B analog voltage output", 8 VDD (power) "Positive power supply"

## TLV5637CDG4
designator U?
10-Bit, 1 us DAC Serial Input, Dual DAC, Programmable Internal Reference, Settling Time, 0 to 70 degC, 8-pin SOIC (D8), Green (RoHS & no Sb/Br); Manufacturer: Texas Instruments; PartNumber: TLV5637CDG4; DAC Channels: 2; DNL(Max)(+/-LSB): 0.5; INL(Max)(+/-LSB): 1; Interface: Serial SPI; Power Consumption(Typ)(mW): 4.2; Resolution(Bits): 10; Settling Time(us): 0.8; SFDR(dB): 62; SNR(dB): 56; SubFamily: Precision DAC (=<10MSPS); DatasheetVersion: SLAS224C; PackageVersion: 4040047-3/M, 06/2011; PackageReference: D8; PackageDescription: 8-Pin Plastic Small Outline, Body 4.9 x 3.9 mm, Pitch 1.27 mm; Supplier 1: Digi-Key; Supplier Part Number 1: TLV5637CDG4-ND; Supplier 2: Newark; Supplier Part Number 2: 33K7426; Supplier 3: Mouser; Supplier Part Number 3: 595-TLV5637CDG4; Eco-Plan: Green (RoHS & no Sb/Br); Mounting Technology: Surface Mount; Code_JEDEC: MS-012; ComponentLink1Description: Manufacturer URL; ComponentLink1URL: http://www.ti.com/; ComponentLink2Description: Datasheet; ComponentLink2URL: http://www.ti.com/general/docs/lit/getliterature.tsp?genericPartNumber=TLV5637&fileType=pdf; ComponentLink3Description: Package Specification; ComponentLink3URL: http://www.ti.com/litv/pdf/msoi002j
footprint TI-D8_N (SOIC, 8-Leads, Body 4.9x3.9mm, Pitch 1.27mm, IPC Medium Density)
footprint TI-D8_L (SOIC, 8-Leads, Body 4.9x3.9mm, Pitch 1.27mm, IPC High Density)
footprint TI-D8_M (SOIC, 8-Leads, Body 4.9x3.9mm, Pitch 1.27mm, IPC Low Density)
pins: 1 DIN (in) "Digital serial data input", 2 SCLK (in) "Digital serial clock input", 3 ~{CS} (in) "Chip select. Digital input active low, used to enable/disable inputs", 4 OUTA (out) "DAC A analog voltage output", 5 AGND (power) "Ground", 6 REF (io) "Analog reference voltage input/output", 7 OUTB (out) "DAC B analog voltage output", 8 VDD (power) "Positive power supply"

## TLV5637CDRG4
designator U?
10-Bit, 1 us DAC Serial Input, Dual DAC, Programmable Internal Reference, Settling Time, 0 to 70 degC, 8-pin SOIC (D8), Green (RoHS & no Sb/Br); Manufacturer: Texas Instruments; PartNumber: TLV5637CDRG4; DAC Channels: 2; DNL(Max)(+/-LSB): 0.5; INL(Max)(+/-LSB): 1; Interface: Serial SPI; Power Consumption(Typ)(mW): 4.2; Resolution(Bits): 10; Settling Time(us): 0.8; SFDR(dB): 62; SNR(dB): 56; SubFamily: Precision DAC (=<10MSPS); DatasheetVersion: SLAS224C; PackageVersion: 4040047-3/M, 06/2011; PackageReference: D8; PackageDescription: 8-Pin Plastic Small Outline, Body 4.9 x 3.9 mm, Pitch 1.27 mm; Supplier 1: Digi-Key; Supplier Part Number 1: TLV5637CDRG4-ND; Supplier 2: Mouser; Supplier Part Number 2: 595-TLV5637CDRG4; Eco-Plan: Green (RoHS & no Sb/Br); Mounting Technology: Surface Mount; Code_JEDEC: MS-012; ComponentLink1Description: Manufacturer URL; ComponentLink1URL: http://www.ti.com/; ComponentLink2Description: Datasheet; ComponentLink2URL: http://www.ti.com/general/docs/lit/getliterature.tsp?genericPartNumber=TLV5637&fileType=pdf; ComponentLink3Description: Package Specification; ComponentLink3URL: http://www.ti.com/litv/pdf/msoi002j
footprint TI-D8_N (SOIC, 8-Leads, Body 4.9x3.9mm, Pitch 1.27mm, IPC Medium Density)
footprint TI-D8_L (SOIC, 8-Leads, Body 4.9x3.9mm, Pitch 1.27mm, IPC High Density)
footprint TI-D8_M (SOIC, 8-Leads, Body 4.9x3.9mm, Pitch 1.27mm, IPC Low Density)
pins: 1 DIN (in) "Digital serial data input", 2 SCLK (in) "Digital serial clock input", 3 ~{CS} (in) "Chip select. Digital input active low, used to enable/disable inputs", 4 OUTA (out) "DAC A analog voltage output", 5 AGND (power) "Ground", 6 REF (io) "Analog reference voltage input/output", 7 OUTB (out) "DAC B analog voltage output", 8 VDD (power) "Positive power supply"

## TLV5637ID
designator U?
10-Bit, 1 us DAC Serial Input, Dual DAC, Programmable Internal Reference, Settling Time, -40 to 85 degC, 8-pin SOIC (D8), Green (RoHS & no Sb/Br); Manufacturer: Texas Instruments; PartNumber: TLV5637ID; DAC Channels: 2; DNL(Max)(+/-LSB): 0.5; INL(Max)(+/-LSB): 1; Interface: Serial SPI; Power Consumption(Typ)(mW): 4.2; Resolution(Bits): 10; Settling Time(us): 0.8; SFDR(dB): 62; SNR(dB): 56; SubFamily: Precision DAC (=<10MSPS); DatasheetVersion: SLAS224C; PackageVersion: 4040047-3/M, 06/2011; PackageReference: D8; PackageDescription: 8-Pin Plastic Small Outline, Body 4.9 x 3.9 mm, Pitch 1.27 mm; Supplier 1: Digi-Key; Supplier Part Number 1: 296-3075-5-ND; Supplier 2: Farnell; Supplier Part Number 2: 8455830; Supplier 3: Newark; Supplier Part Number 3: 76C8992; Supplier 4: Mouser; Supplier Part Number 4: 595-TLV5637ID; Eco-Plan: Green (RoHS & no Sb/Br); Mounting Technology: Surface Mount; Code_JEDEC: MS-012; ComponentLink1Description: Manufacturer URL; ComponentLink1URL: http://www.ti.com/; ComponentLink2Description: Datasheet; ComponentLink2URL: http://www.ti.com/general/docs/lit/getliterature.tsp?genericPartNumber=TLV5637&fileType=pdf; ComponentLink3Description: Package Specification; ComponentLink3URL: http://www.ti.com/litv/pdf/msoi002j
footprint TI-D8_N (SOIC, 8-Leads, Body 4.9x3.9mm, Pitch 1.27mm, IPC Medium Density)
footprint TI-D8_L (SOIC, 8-Leads, Body 4.9x3.9mm, Pitch 1.27mm, IPC High Density)
footprint TI-D8_M (SOIC, 8-Leads, Body 4.9x3.9mm, Pitch 1.27mm, IPC Low Density)
pins: 1 DIN (in) "Digital serial data input", 2 SCLK (in) "Digital serial clock input", 3 ~{CS} (in) "Chip select. Digital input active low, used to enable/disable inputs", 4 OUTA (out) "DAC A analog voltage output", 5 AGND (power) "Ground", 6 REF (io) "Analog reference voltage input/output", 7 OUTB (out) "DAC B analog voltage output", 8 VDD (power) "Positive power supply"

## TLV5637IDG4
designator U?
10-Bit, 1 us DAC Serial Input, Dual DAC, Programmable Internal Reference, Settling Time, -40 to 85 degC, 8-pin SOIC (D8), Green (RoHS & no Sb/Br); Manufacturer: Texas Instruments; PartNumber: TLV5637IDG4; DAC Channels: 2; DNL(Max)(+/-LSB): 0.5; INL(Max)(+/-LSB): 1; Interface: Serial SPI; Power Consumption(Typ)(mW): 4.2; Resolution(Bits): 10; Settling Time(us): 0.8; SFDR(dB): 62; SNR(dB): 56; SubFamily: Precision DAC (=<10MSPS); DatasheetVersion: SLAS224C; PackageVersion: 4040047-3/M, 06/2011; PackageReference: D8; PackageDescription: 8-Pin Plastic Small Outline, Body 4.9 x 3.9 mm, Pitch 1.27 mm; Supplier 1: Digi-Key; Supplier Part Number 1: TLV5637IDG4-ND; Supplier 2: Mouser; Supplier Part Number 2: 595-TLV5637IDG4; Eco-Plan: Green (RoHS & no Sb/Br); Mounting Technology: Surface Mount; Code_JEDEC: MS-012; ComponentLink1Description: Manufacturer URL; ComponentLink1URL: http://www.ti.com/; ComponentLink2Description: Datasheet; ComponentLink2URL: http://www.ti.com/general/docs/lit/getliterature.tsp?genericPartNumber=TLV5637&fileType=pdf; ComponentLink3Description: Package Specification; ComponentLink3URL: http://www.ti.com/litv/pdf/msoi002j
footprint TI-D8_N (SOIC, 8-Leads, Body 4.9x3.9mm, Pitch 1.27mm, IPC Medium Density)
footprint TI-D8_L (SOIC, 8-Leads, Body 4.9x3.9mm, Pitch 1.27mm, IPC High Density)
footprint TI-D8_M (SOIC, 8-Leads, Body 4.9x3.9mm, Pitch 1.27mm, IPC Low Density)
pins: 1 DIN (in) "Digital serial data input", 2 SCLK (in) "Digital serial clock input", 3 ~{CS} (in) "Chip select. Digital input active low, used to enable/disable inputs", 4 OUTA (out) "DAC A analog voltage output", 5 AGND (power) "Ground", 6 REF (io) "Analog reference voltage input/output", 7 OUTB (out) "DAC B analog voltage output", 8 VDD (power) "Positive power supply"

## TLV5637IDR
designator U?
10-Bit, 1 us DAC Serial Input, Dual DAC, Programmable Internal Reference, Settling Time, -40 to 85 degC, 8-pin SOIC (D8), Green (RoHS & no Sb/Br); Manufacturer: Texas Instruments; PartNumber: TLV5637IDR; DAC Channels: 2; DNL(Max)(+/-LSB): 0.5; INL(Max)(+/-LSB): 1; Interface: Serial SPI; Power Consumption(Typ)(mW): 4.2; Resolution(Bits): 10; Settling Time(us): 0.8; SFDR(dB): 62; SNR(dB): 56; SubFamily: Precision DAC (=<10MSPS); DatasheetVersion: SLAS224C; PackageVersion: 4040047-3/M, 06/2011; PackageReference: D8; PackageDescription: 8-Pin Plastic Small Outline, Body 4.9 x 3.9 mm, Pitch 1.27 mm; Supplier 1: Digi-Key; Supplier Part Number 1: TLV5637IDR-ND; Supplier 2: Mouser; Supplier Part Number 2: 595-TLV5637IDR; Eco-Plan: Green (RoHS & no Sb/Br); Mounting Technology: Surface Mount; Code_JEDEC: MS-012; ComponentLink1Description: Manufacturer URL; ComponentLink1URL: http://www.ti.com/; ComponentLink2Description: Datasheet; ComponentLink2URL: http://www.ti.com/general/docs/lit/getliterature.tsp?genericPartNumber=TLV5637&fileType=pdf; ComponentLink3Description: Package Specification; ComponentLink3URL: http://www.ti.com/litv/pdf/msoi002j
footprint TI-D8_N (SOIC, 8-Leads, Body 4.9x3.9mm, Pitch 1.27mm, IPC Medium Density)
footprint TI-D8_L (SOIC, 8-Leads, Body 4.9x3.9mm, Pitch 1.27mm, IPC High Density)
footprint TI-D8_M (SOIC, 8-Leads, Body 4.9x3.9mm, Pitch 1.27mm, IPC Low Density)
pins: 1 DIN (in) "Digital serial data input", 2 SCLK (in) "Digital serial clock input", 3 ~{CS} (in) "Chip select. Digital input active low, used to enable/disable inputs", 4 OUTA (out) "DAC A analog voltage output", 5 AGND (power) "Ground", 6 REF (io) "Analog reference voltage input/output", 7 OUTB (out) "DAC B analog voltage output", 8 VDD (power) "Positive power supply"

## TLV5637IDRG4
designator U?
10-Bit, 1 us DAC Serial Input, Dual DAC, Programmable Internal Reference, Settling Time, -40 to 85 degC, 8-pin SOIC (D8), Green (RoHS & no Sb/Br); Manufacturer: Texas Instruments; PartNumber: TLV5637IDRG4; DAC Channels: 2; DNL(Max)(+/-LSB): 0.5; INL(Max)(+/-LSB): 1; Interface: Serial SPI; Power Consumption(Typ)(mW): 4.2; Resolution(Bits): 10; Settling Time(us): 0.8; SFDR(dB): 62; SNR(dB): 56; SubFamily: Precision DAC (=<10MSPS); DatasheetVersion: SLAS224C; PackageVersion: 4040047-3/M, 06/2011; PackageReference: D8; PackageDescription: 8-Pin Plastic Small Outline, Body 4.9 x 3.9 mm, Pitch 1.27 mm; Supplier 1: Digi-Key; Supplier Part Number 1: TLV5637IDRG4-ND; Supplier 2: Mouser; Supplier Part Number 2: 595-TLV5637IDRG4; Eco-Plan: Green (RoHS & no Sb/Br); Mounting Technology: Surface Mount; Code_JEDEC: MS-012; ComponentLink1Description: Manufacturer URL; ComponentLink1URL: http://www.ti.com/; ComponentLink2Description: Datasheet; ComponentLink2URL: http://www.ti.com/general/docs/lit/getliterature.tsp?genericPartNumber=TLV5637&fileType=pdf; ComponentLink3Description: Package Specification; ComponentLink3URL: http://www.ti.com/litv/pdf/msoi002j
footprint TI-D8_N (SOIC, 8-Leads, Body 4.9x3.9mm, Pitch 1.27mm, IPC Medium Density)
footprint TI-D8_L (SOIC, 8-Leads, Body 4.9x3.9mm, Pitch 1.27mm, IPC High Density)
footprint TI-D8_M (SOIC, 8-Leads, Body 4.9x3.9mm, Pitch 1.27mm, IPC Low Density)
pins: 1 DIN (in) "Digital serial data input", 2 SCLK (in) "Digital serial clock input", 3 ~{CS} (in) "Chip select. Digital input active low, used to enable/disable inputs", 4 OUTA (out) "DAC A analog voltage output", 5 AGND (power) "Ground", 6 REF (io) "Analog reference voltage input/output", 7 OUTB (out) "DAC B analog voltage output", 8 VDD (power) "Positive power supply"

## TLV5638CD
designator U?
12-Bit, 1 or 3.5 us DAC Serial Input, Dual DAC, Programmable Internal Reference, Settling Time, Power Consumption, 0 to 70 degC, 8-pin SOIC (D8), Green (RoHS & no Sb/Br); Manufacturer: Texas Instruments; PartNumber: TLV5638CD; DAC Channels: 2; DNL(Max)(+/-LSB): 1; INL(Max)(+/-LSB): 4; Interface: Serial SPI; Power Consumption(Typ)(mW): 4.5; Resolution(Bits): 12; SFDR(dB): 72; SNR(dB): 74; SubFamily: Precision DAC (=<10MSPS); DatasheetVersion: SLAS225C; PackageVersion: 4040047-3/M, 06/2011; PackageReference: D8; PackageDescription: 8-Pin Plastic Small Outline, Body 4.9 x 3.9 mm, Pitch 1.27 mm; Supplier 1: Digi-Key; Supplier Part Number 1: 296-2317-5-ND; Supplier 2: Farnell; Supplier Part Number 2: 8455848; Supplier 3: Newark; Supplier Part Number 3: 35K1254; Supplier 4: Mouser; Supplier Part Number 4: 595-TLV5638CD; Eco-Plan: Green (RoHS & no Sb/Br); Settling Time(us): 1; Mounting Technology: Surface Mount; Code_JEDEC: MS-012; ComponentLink1Description: Manufacturer URL; ComponentLink1URL: http://www.ti.com/; ComponentLink2Description: Datasheet; ComponentLink2URL: http://www.ti.com/general/docs/lit/getliterature.tsp?genericPartNumber=TLV5638&fileType=pdf; ComponentLink3Description: Package Specification; ComponentLink3URL: http://www.ti.com/litv/pdf/msoi002j
footprint TI-D8_N (SOIC, 8-Leads, Body 4.9x3.9mm, Pitch 1.27mm, IPC Medium Density)
footprint TI-D8_L (SOIC, 8-Leads, Body 4.9x3.9mm, Pitch 1.27mm, IPC High Density)
footprint TI-D8_M (SOIC, 8-Leads, Body 4.9x3.9mm, Pitch 1.27mm, IPC Low Density)
pins: 1 DIN (in) "Digital serial data input", 2 SCLK (in) "Digital serial clock input", 3 ~{CS} (in) "Chip select. Digital input active low, used to enable/disable inputs", 4 OUTA (out) "DAC A analog voltage output", 5 AGND (power) "Ground", 6 REF (io) "Analog reference voltage input/output", 7 OUTB (out) "DAC B analog voltage output", 8 VDD (power) "Positive power supply"

## TLV5638CDG4
designator U?
12-Bit, 1 or 3.5 us DAC Serial Input, Dual DAC, Programmable Internal Reference, Settling Time, Power Consumption, 0 to 70 degC, 8-pin SOIC (D8), Green (RoHS & no Sb/Br); Manufacturer: Texas Instruments; PartNumber: TLV5638CDG4; DAC Channels: 2; DNL(Max)(+/-LSB): 1; INL(Max)(+/-LSB): 4; Interface: Serial SPI; Power Consumption(Typ)(mW): 4.5; Resolution(Bits): 12; SFDR(dB): 72; SNR(dB): 74; SubFamily: Precision DAC (=<10MSPS); DatasheetVersion: SLAS225C; PackageVersion: 4040047-3/M, 06/2011; PackageReference: D8; PackageDescription: 8-Pin Plastic Small Outline, Body 4.9 x 3.9 mm, Pitch 1.27 mm; Supplier 1: Digi-Key; Supplier Part Number 1: TLV5638CDG4-ND; Supplier 2: Newark; Supplier Part Number 2: 54K1408; Supplier 3: Mouser; Supplier Part Number 3: 595-TLV5638CDG4; Eco-Plan: Green (RoHS & no Sb/Br); Settling Time(us): 1; Mounting Technology: Surface Mount; Code_JEDEC: MS-012; ComponentLink1Description: Manufacturer URL; ComponentLink1URL: http://www.ti.com/; ComponentLink2Description: Datasheet; ComponentLink2URL: http://www.ti.com/general/docs/lit/getliterature.tsp?genericPartNumber=TLV5638&fileType=pdf; ComponentLink3Description: Package Specification; ComponentLink3URL: http://www.ti.com/litv/pdf/msoi002j
footprint TI-D8_N (SOIC, 8-Leads, Body 4.9x3.9mm, Pitch 1.27mm, IPC Medium Density)
footprint TI-D8_L (SOIC, 8-Leads, Body 4.9x3.9mm, Pitch 1.27mm, IPC High Density)
footprint TI-D8_M (SOIC, 8-Leads, Body 4.9x3.9mm, Pitch 1.27mm, IPC Low Density)
pins: 1 DIN (in) "Digital serial data input", 2 SCLK (in) "Digital serial clock input", 3 ~{CS} (in) "Chip select. Digital input active low, used to enable/disable inputs", 4 OUTA (out) "DAC A analog voltage output", 5 AGND (power) "Ground", 6 REF (io) "Analog reference voltage input/output", 7 OUTB (out) "DAC B analog voltage output", 8 VDD (power) "Positive power supply"

## TLV5638CDR
designator U?
12-Bit, 1 or 3.5 us DAC Serial Input, Dual DAC, Programmable Internal Reference, Settling Time, Power Consumption, 0 to 70 degC, 8-pin SOIC (D8), Green (RoHS & no Sb/Br); Manufacturer: Texas Instruments; PartNumber: TLV5638CDR; DAC Channels: 2; DNL(Max)(+/-LSB): 1; INL(Max)(+/-LSB): 4; Interface: Serial SPI; Power Consumption(Typ)(mW): 4.5; Resolution(Bits): 12; SFDR(dB): 72; SNR(dB): 74; SubFamily: Precision DAC (=<10MSPS); DatasheetVersion: SLAS225C; PackageVersion: 4040047-3/M, 06/2011; PackageReference: D8; PackageDescription: 8-Pin Plastic Small Outline, Body 4.9 x 3.9 mm, Pitch 1.27 mm; Supplier 1: Digi-Key; Supplier Part Number 1: TLV5638CDR-ND; Supplier 2: Newark; Supplier Part Number 2: 76C8994; Supplier 3: Mouser; Supplier Part Number 3: 595-TLV5638CDR; Eco-Plan: Green (RoHS & no Sb/Br); Settling Time(us): 1; Mounting Technology: Surface Mount; Code_JEDEC: MS-012; ComponentLink1Description: Manufacturer URL; ComponentLink1URL: http://www.ti.com/; ComponentLink2Description: Datasheet; ComponentLink2URL: http://www.ti.com/general/docs/lit/getliterature.tsp?genericPartNumber=TLV5638&fileType=pdf; ComponentLink3Description: Package Specification; ComponentLink3URL: http://www.ti.com/litv/pdf/msoi002j
footprint TI-D8_N (SOIC, 8-Leads, Body 4.9x3.9mm, Pitch 1.27mm, IPC Medium Density)
footprint TI-D8_L (SOIC, 8-Leads, Body 4.9x3.9mm, Pitch 1.27mm, IPC High Density)
footprint TI-D8_M (SOIC, 8-Leads, Body 4.9x3.9mm, Pitch 1.27mm, IPC Low Density)
pins: 1 DIN (in) "Digital serial data input", 2 SCLK (in) "Digital serial clock input", 3 ~{CS} (in) "Chip select. Digital input active low, used to enable/disable inputs", 4 OUTA (out) "DAC A analog voltage output", 5 AGND (power) "Ground", 6 REF (io) "Analog reference voltage input/output", 7 OUTB (out) "DAC B analog voltage output", 8 VDD (power) "Positive power supply"